# Altium footprint library Pasives.PcbLib: 13 footprints
Each footprint in its own frame and in the unit in brackets; x right, y up, seen from the top. Pads: shape width x height; smd on the part's side, far side on the other; paste and mask are expansions set on the pad; w line width, h text height; cw(c..) or ccw(c..) is an arc to the next point about the centre after c.
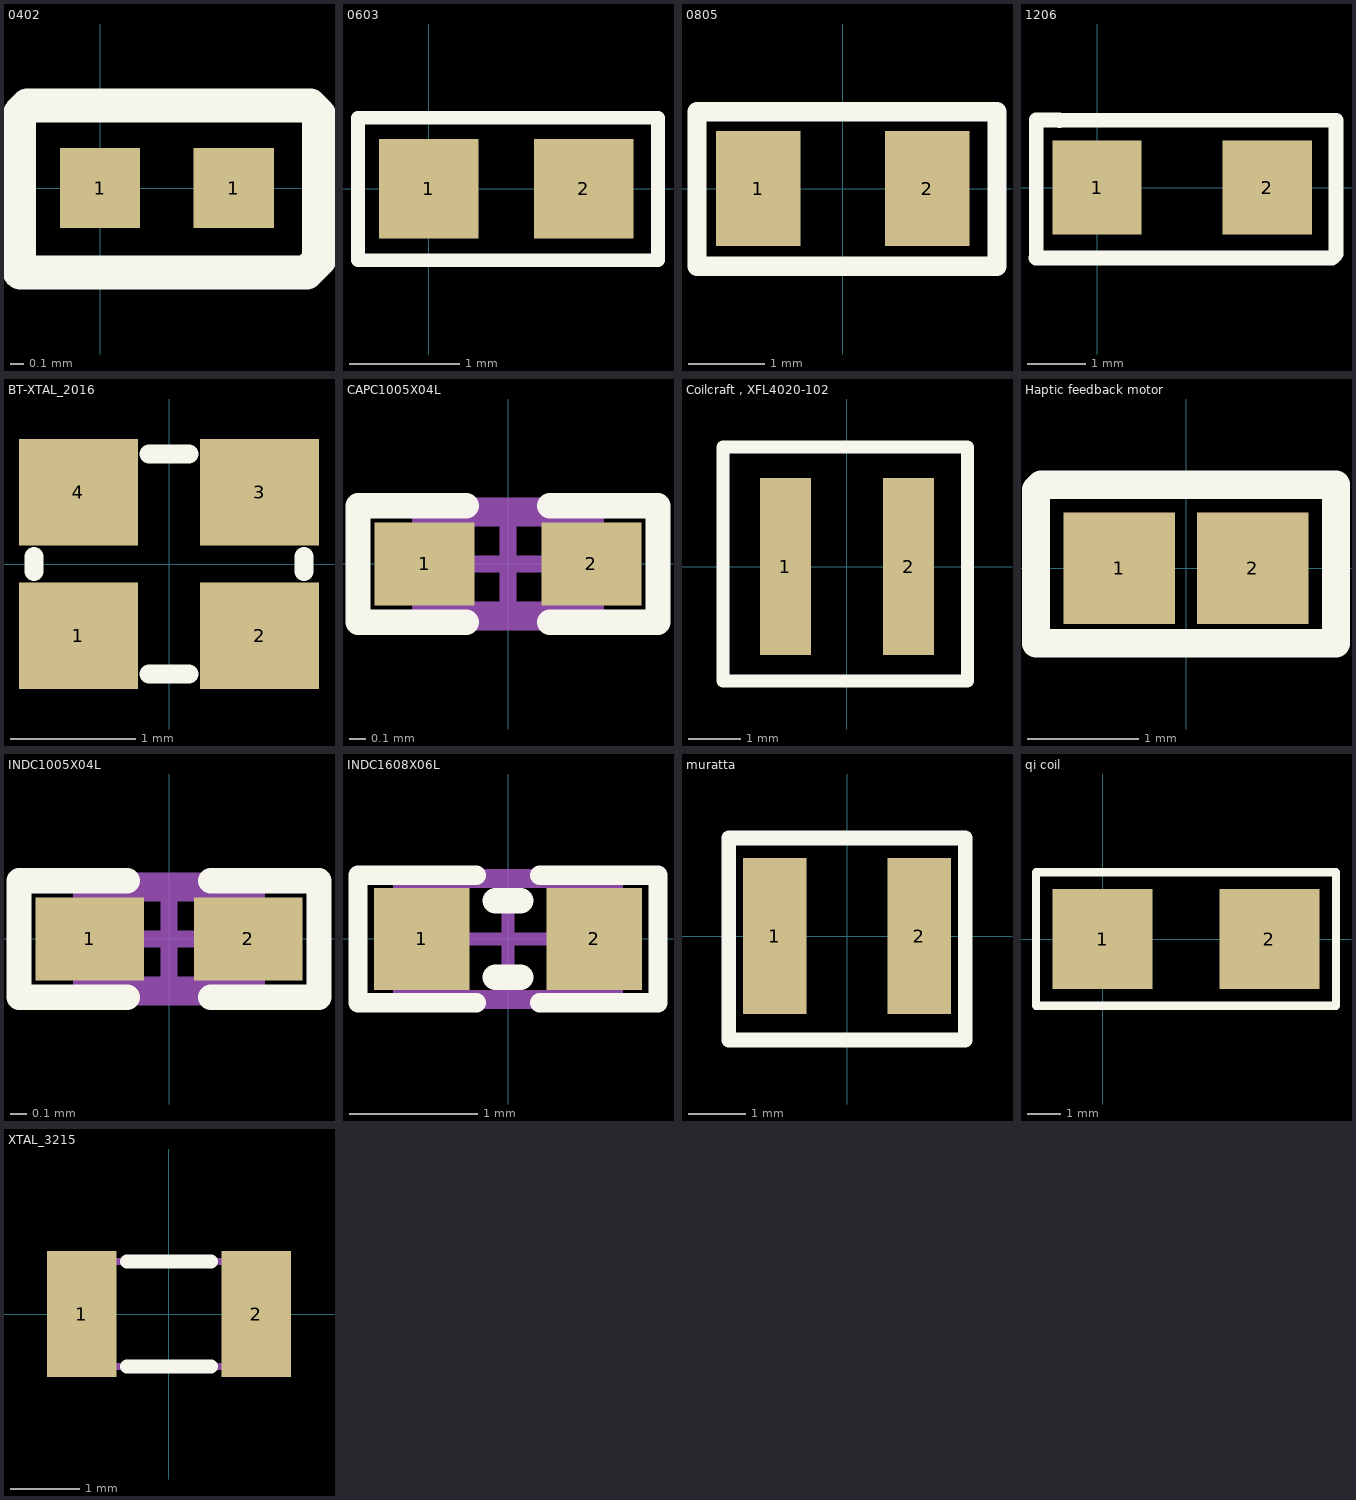
[diagram p0: the footprints below, top view; thin cyan lines are the x and y axes]

## 0402 [mm]
pads (2):
  rect 0.6x0.6 smd: 1(0,0) 1(1,0)
Top Overlay:
  lines w0.254: -0.607,-0.624 -0.599,-0.631 1.545,-0.631 1.638,-0.539 1.638,0.549 1.569,0.618 -0.542,0.618 -0.605,0.555 -0.605,-0.13 -0.605,-0.625 -0.603,-0.627
3D body: height 0.25, standoff 0, extent 0,-0.3 1,0.3

## 0603 [mm]
pads (2):
  rect 0.9x0.9 smd: 1(0,0) 2(1.4,0)
Top Overlay:
  lines w0.125: -0.642,-0.649 2.072,-0.649 2.072,0.297 2.072,0.641 -0.642,0.641 -0.642,-0.649
3D body "0603 SMD Capacitor.step": height 0.3, standoff 0, extent -0.028,-0.38 1.572,0.42

## 0805 [mm]
pads (2):
  rect 1.1x1.5 smd: 1(-1.1,0) 2(1.1,0)
Top Overlay:
  lines w0.254: -1.9,-1.01 -1.9,-0.6 -1.9,1 1.8,1 2.011,1 2.011,-1.01 -1.9,-1.01
3D body "0805 SMD Capacitor.step": height 0.78, standoff 0, extent -1.1,-0.625 0.9,0.625

## 1206 [mm]
pads (2):
  rect 1.52x1.6 smd: 1(0,0) 2(2.9,0)
Top Overlay:
  lines w0.254: -0.666,1.146 4.067,1.146 4.069,1.144 4.069,-1.131 4,-1.2 -1.041,-1.2 -1.037,-1.196 -1.037,1.15 -0.647,1.15 -0.64,1.142
3D body "1206.step": height 0.6, standoff 0, extent -0.218,-0.819 2.982,0.781

## BT-XTAL_2016 [mm]
pads (4):
  rect 0.95x0.85 smd: 1(-0.725,-0.575) 2(0.725,-0.575) 3(0.725,0.575) 4(-0.725,0.575)
Top Overlay:
  lines w0.152: -1.08,-0.06 -1.08,0.06 ; -0.16,-0.88 0.16,-0.88 ; -0.16,0.88 0.16,0.88 ; 1.08,-0.06 1.08,0.06

## CAPC1005X04L [mm]
pads (2):
  rect 0.6x0.5 smd: 1(-0.5,0) 2(0.5,0)
Top Overlay:
  lines w0.152: -0.25,-0.35 -0.9,-0.35 -0.9,0.35 -0.25,0.35 ; 0.25,-0.35 0.9,-0.35 0.9,0.35 0.25,0.35
Mechanical 13:
  lines w0.1: -0.525,-0.275 0.525,-0.275 0.525,0.275 -0.525,0.275 -0.525,-0.275
Mechanical 15:
  lines w0.1: -0.275,0 0.275,0 ; 0,-0.275 0,0.275 ; -0.9,-0.35 -0.9,0.35 0.9,0.35 0.9,-0.35 -0.9,-0.35
3D body "User Library-0402(1005M) Cap.step": height 0.5, standoff -0.01, extent -0.508,-0.254 0.508,0.254

## Coilcraft , XFL4020-102 [mm]
pads (2):
  rect 0.98x3.4 smd: 1(-1.185,0) 2(1.185,0)
Top Overlay:
  lines w0.254: -2.185,-2.2 2.315,-2.2 2.315,2.3 -2.385,2.3 -2.385,-2 -2.385,-2.2 -1.685,-2.2
3D body "XFL4020.STEP": height 2.05, standoff -0.05, extent -2.141,-2.126 2.159,2.174

## Haptic feedback motor [mm]
pads (2):
  rect 1x1 smd: 1(-0.6,0) 2(0.6,0)
Top Overlay:
  lines w0.254: -1.348,-0.673 -1.348,-0.16 -1.348,0.705 -1.303,0.75 1.346,0.75 1.346,-0.673 -1.348,-0.673

## INDC1005X04L [mm]
pads (2):
  rect 0.65x0.5 smd: 1(-0.475,0) 2(0.475,0)
Top Overlay:
  lines w0.152: -0.25,-0.35 -0.9,-0.35 -0.9,0.35 -0.25,0.35 ; 0.25,-0.35 0.9,-0.35 0.9,0.35 0.25,0.35
Mechanical 13:
  lines w0.1: -0.525,-0.275 0.525,-0.275 0.525,0.275 -0.525,0.275 -0.525,-0.275
Mechanical 15:
  lines w0.1: -0.275,0 0.275,0 ; 0,-0.275 0,0.275 ; -0.9,-0.35 0.9,-0.35 0.9,0.35 -0.9,0.35 -0.9,-0.35
3D body "User Library-Chip Inductor 0402.step": height 0.5, standoff 0, extent -0.5,-0.3 0.5,0.3

## INDC1608X06L [mm]
pads (2):
  rect 0.75x0.8 smd: 1(-0.675,0) 2(0.675,0)
Top Overlay:
  lines w0.152: -0.25,-0.5 -1.175,-0.5 -1.175,0.5 -0.25,0.5 ; 0.25,-0.5 1.175,-0.5 1.175,0.5 0.25,0.5
  lines w0.2: -0.1,-0.3 0.1,-0.3 ; -0.1,0.3 0.1,0.3
Mechanical 13:
  lines w0.1: -0.85,-0.45 0.85,-0.45 0.85,0.45 -0.85,0.45 -0.85,-0.45
Mechanical 15:
  lines w0.1: -0.45,0 0.45,0 ; 0,-0.45 0,0.45 ; -1.175,-0.5 -1.175,0.5 1.175,0.5 1.175,-0.5 -1.175,-0.5
3D body "User Library-Chip Inductor.step": height 0.8, standoff 0, extent -0.8,-0.475 0.8,0.475

## muratta [mm]
pads (2):
  rect 1.1x2.7 smd: 1(-1.25,0) 2(1.25,0)
Top Overlay:
  lines w0.254: -2.05,-1.8 2.05,-1.8 2.05,1.7 -2.05,1.7 -2.05,-1.5 -2.05,-1.8
3D body "UsMurata_LQH3NP_M0.step": height 1.4, standoff -0.01, extent -1.66,-1.5 1.36,1.5

## qi coil [mm]
pads (2):
  rect 3x3 smd: 1(0,0) 2(5,0)
Top Overlay:
  lines w0.254: -2,-2 7,-2 7,2 -2,2 -2,0 -2,-2
3D body "760308103102 (rev1).stp": height 2.04, standoff -1.5, extent -20.5,-91.5 32.5,1.45

## XTAL_3215 [mm]
pads (2):
  rect 1x1.8 smd: 1(-1.25,0) 2(1.25,0)
Top Overlay:
  lines w0.2: -0.6,-0.75 0.6,-0.75 ; -0.6,0.75 0.6,0.75
Mechanical 3:
  lines w0.1: -1.6,-0.55 cw(c-1.6,-0.75) -1.4,-0.75 1.4,-0.75 cw(c1.6,-0.75) 1.6,-0.55 1.6,0.55 cw(c1.6,0.75) 1.4,0.75 -1.4,0.75 cw(c-1.6,0.75) -1.6,0.55 -1.6,-0.55
3D body: height 0.81, standoff 0.15, extent -1.2,-0.6 1.2,0.6
3D body "User Library-Siward_SX3215.step": height 0.81, standoff 0, extent -1.6,-0.75 1.6,0.75